# Altium footprint library TSOP-1-32.PcbLib: 1 footprints
Each footprint in its own frame and in the unit in brackets; x right, y up, seen from the top. Pads: shape width x height; smd on the part's side, far side on the other; paste and mask are expansions set on the pad; w line width, h text height; cw(c..) or ccw(c..) is an arc to the next point about the centre after c.
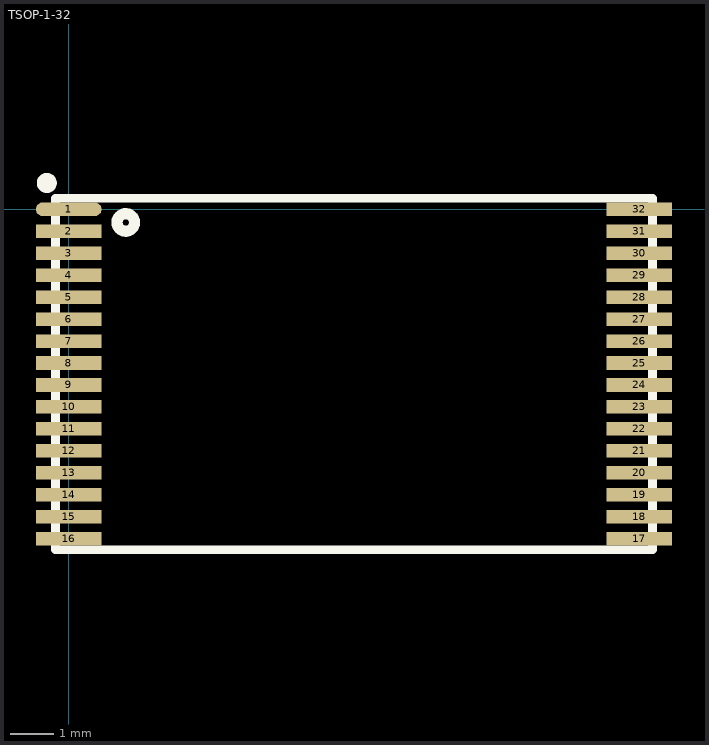
[diagram p0: the footprint, top view; thin cyan lines are the x and y axes]

## TSOP-1-32 [mm] "Thin small outline package"
height 1
pads (32):
  oval 1.5x0.31 smd mask+0.1: 1(0,0)
  rect 1.5x0.31 smd mask+0.1: 2(0,-0.5) 3(0,-1.001) 4(0,-1.501) 5(0,-2.002) 6(0,-2.502) 7(0,-3.002) 8(0,-3.503) 9(0,-4.003) 10(0,-4.503) 11(0,-5.004) 12(0,-5.504) 13(0,-6.005) 14(0,-6.505) 15(0,-7.005) 16(0,-7.506) 17(13,-7.506) 18(13,-7.005) 19(13,-6.505) 20(13,-6.005) 21(13,-5.504) 22(13,-5.004) 23(13,-4.503) 24(13,-4.003) 25(13,-3.503) 26(13,-3.002) 27(13,-2.502) 28(13,-2.002) 29(13,-1.501) 30(13,-1.001) 31(13,-0.5) 32(13,0)
Top Overlay:
  circle w0.254: c1.3,-0.3 r0.2
  circle w0.254: c-0.5,0.6 r0.1
  lines w0.2: -0.3,-7.756 13.3,-7.756 13.3,0.25 6.571,0.25 -0.3,0.25 -0.3,-7.756
3D body "TSOP-1-32.step": height 1.19, standoff -0.01, extent -0.209,-7.78 13.191,0.22